# Altium footprint library Plastic_Film_Capacitor_Pcb.PcbLib: 2 footprints
Each footprint in its own frame and in the unit in brackets; x right, y up, seen from the top. Pads: shape width x height; smd on the part's side, far side on the other; paste and mask are expansions set on the pad; w line width, h text height; cw(c..) or ccw(c..) is an arc to the next point about the centre after c.
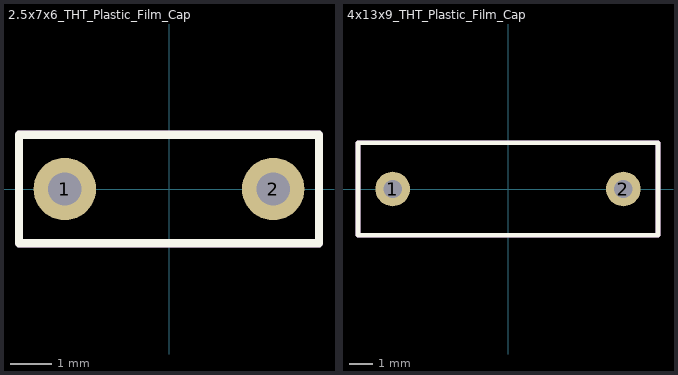
[diagram p0: the footprints below, top view; thin cyan lines are the x and y axes]

## 2.5x7x6_THT_Plastic_Film_Cap [mm]
pads (2):
  round 1.5 hole 0.8: 1(-2.5,0) 2(2.5,0)
Top Overlay:
  lines w0.2: -3.6,-1.3 -3.6,1.3 0,1.3 3.6,1.3 3.6,-1.3 -3.6,-1.3
Mechanical 29:
  lines w0.2: -3.6,-1.3 -3.6,1.3 0,1.3 3.6,1.3 3.6,-1.3 -3.6,-1.3
  text "'.Designator'" at -3.1,-0.567 h1
3D body "F601JF103K063C.step": height 6.5, standoff -5, extent -3.6,-1.3 3.6,1.205

## 4x13x9_THT_Plastic_Film_Cap [mm]
pads (2):
  round 1.5 hole 0.8: 1(-5,0) 2(5,0)
Top Overlay:
  lines w0.2: -6.5,-2 6.5,-2 6.5,2 -6.5,2 -6.5,0 -6.5,-2
Mechanical 29:
  lines w0.2: -6.5,-2 6.5,-2 6.5,2 -6.5,2 -6.5,0 -6.5,-2
  text "'.Designator'" at -5.8,-0.467 h1
3D body "CAP_4X7X13_(B32521).step": height 7.01, standoff -4.37, extent -6.499,-1.994 6.481,1.994